# Altium footprint library PCB.PcbLib: 24 footprints (part 1 of 2)
Each footprint in its own frame and in the unit in brackets; x right, y up, seen from the top. Pads: shape width x height; smd on the part's side, far side on the other; paste and mask are expansions set on the pad; w line width, h text height; cw(c..) or ccw(c..) is an arc to the next point about the centre after c.
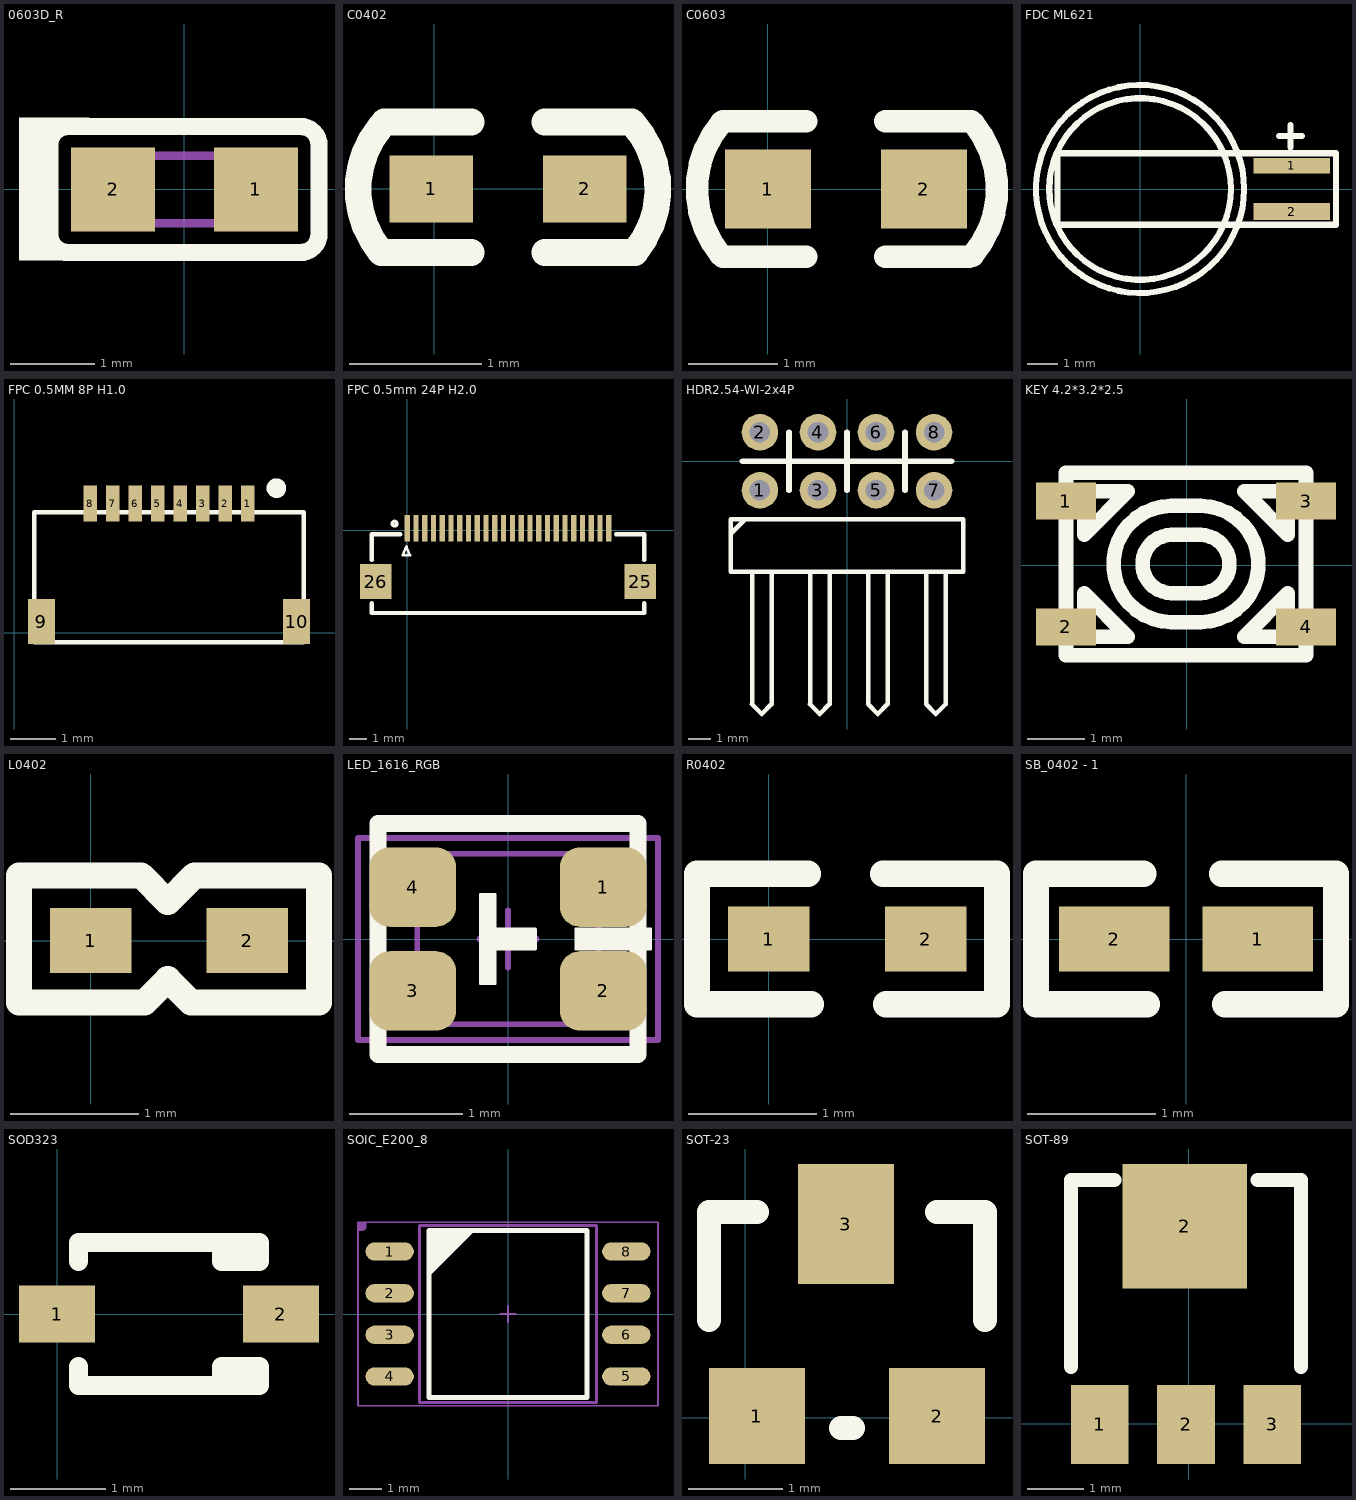
[diagram p0: the footprints below, top view; thin cyan lines are the x and y axes]

## 0603D_R [mm] "LED, SMT, Body 1.6 x 0.8 mm, 0.25mm Thickness"
height 0.25
pads (2):
  rect 1x1 smd paste+0 mask+0: 1(0.85,0) 2(-0.85,0)
Top Overlay:
  rectangle: -1.779,0.671 -1.129,0.857
  rectangle: -1.969,-0.845 -1.512,0.857
  rectangle: -1.779,-0.845 -1.195,-0.68
  lines w0.203: -1.602,-0.533 ccw(c-1.386,-0.533) -1.386,-0.749 1.386,-0.749 ccw(c1.386,-0.533) 1.602,-0.533 1.602,0.533 ccw(c1.386,0.533) 1.386,0.749 -1.386,0.749 ccw(c-1.386,0.533) -1.602,0.533 -1.602,-0.533
Mechanical 7:
  lines w0.1: -0.8,-0.4 -0.8,0.4 0.8,0.4 0.8,-0.4 -0.8,-0.4
3D body: height 0.1, standoff 0, extent -0.8,-0.4 0.8,0.4
3D body: height 0.2, standoff 0.15, extent -0.254,-0.254 0.254,0.254
3D body: height 0.25, standoff 0.1, extent -0.6,-0.4 0.6,0.4

## C0402 [mil]
height 62.99
pads (2):
  rect 25x20 smd: 1(-1,0) 2(45,0)
Top Overlay:
  lines w8: -15.94,-19 11,-19 ; -15.94,-18.95 cw(c6.42,-0.05) -15.95,18.84 ; -15,20 11,20 ; 33,-19 59.95,-19 ; 33,20 59,20 cw(c37.58,0.05) 59.95,-18.84
3D body "cap_0402.STEP": height 19.68, standoff 0, extent 2.31,-10 41.69,9.69

## C0603 [mil]
pads (2):
  rect 38x35 smd: 1(0,0) 2(69,0)
Top Overlay:
  lines w10: -21,-29 cw(c14.45,-0.04) -20.48,29.56 ; -20,-30 17,-30 ; -20,30 17,30 ; 52,-30 89,-30 ; 52,30 90,30 ; 90.48,-29.56 ccw(c55.55,0.04) 91,29
3D body "User Library-0603 SMD Capacitor.STEP": height 11.89, standoff 0, extent 3.8,-15.8 66.8,15.7

## FDC ML621 [mm]
height 1.6
pads (2):
  rect 2.5x0.5 smd: 1(4.953,0.762)
  rect 2.5x0.55 smd: 2(4.953,-0.738)
Top Overlay:
  circle w0.2: c0,0 r2.967
  circle w0.2: c0,0 r3.4
  lines w0.2: 4.547,1.727 5.283,1.727 ; 4.915,1.359 4.915,2.095 ; -2.692,-1.168 6.401,-1.168 6.401,1.168 6.147,1.168 -2.692,1.168 -2.692,-1.168

## FPC 0.5MM 8P H1.0 [mm]
pads (10):
  rect 0.3x0.8 smd: 1(5.2,2.882) 2(4.7,2.882) 3(4.2,2.882) 4(3.7,2.882) 5(3.2,2.882) 6(2.7,2.882) 7(2.198,2.882) 8(1.7,2.882)
  rect 0.6x1 smd: 9(0.61,0.254) 10(6.29,0.254)
Top Overlay:
  circle w0.254: c5.842,3.226 r0.092
  lines w0.1: 0.454,-0.208 0.454,2.692 6.454,2.692 6.454,-0.208 0.454,-0.208
3D body "5034800800.stp": height 1.85, standoff -0.02, extent 0.604,-0.305 6.304,3.295

## FPC 0.5mm 24P H2.0 [mm]
pads (26):
  rect 0.3x1.5 smd: 1(0,0.127) 2(0.5,0.127) 3(1,0.127) 4(1.5,0.127) 5(2,0.127) 6(2.5,0.127) 7(3,0.127) 8(3.5,0.127) 9(4,0.127) 10(4.5,0.127) 11(5,0.127) 12(5.5,0.127) 13(6,0.127) 14(6.5,0.127) 15(7,0.127) 16(7.5,0.127) 17(8,0.127) 18(8.5,0.127) 19(9,0.127) 20(9.5,0.127) 21(10,0.127) 22(10.5,0.127) 23(11,0.127) 24(11.5,0.127)
  rect 1.8x2 smd: 25(13.301,-2.92) 26(-1.8,-2.92)
Top Overlay:
  circle w0.2: c-0.711,0.381 r0.127
  lines w0.15: -0.237,-1.417 -0.037,-0.917 0.163,-1.417 -0.237,-1.417
  lines w0.254: -2.007,-4.151 -2.007,-4.71 13.507,-4.71 13.507,-4.151 ; -2.007,-1.689 -2.007,-0.22 ; -2.007,-0.214 -0.381,-0.214 ; 11.906,-0.214 13.507,-0.214 13.507,-1.689
3D body "XF2M_2415_1A.step": height 2, standoff 0, extent -2.31,-4.674 13.79,1.226

## HDR2.54-WI-2x4P [mm] "双排弯脚排针，4x2脚"
height 1.6
pads (8):
  round 1.6 hole 0.9: 1(-3.81,-1.27) 2(-3.81,1.27) 3(-1.27,-1.27) 4(-1.27,1.27) 5(1.27,-1.27) 6(1.27,1.27) 7(3.81,-1.27) 8(3.81,1.27)
Top Overlay:
  lines w0.2: -5.08,-3.175 -4.445,-2.54 ; -4.158,-10.634 -3.735,-11.057 -3.311,-10.634 -3.302,-10.625 -3.302,-4.826 ; -4.149,-10.634 -4.149,-4.826 ; -1.618,-10.634 -1.195,-11.057 -0.771,-10.634 ; -1.609,-10.634 -1.609,-4.826 ; -0.762,-10.634 -0.762,-4.826 ; 0.922,-10.634 1.345,-11.057 1.769,-10.634 ; 0.931,-10.634 0.931,-4.826 ; 1.778,-10.634 1.778,-4.826 ; 3.462,-10.634 3.885,-11.057 4.309,-10.634 ; 3.471,-10.634 3.471,-4.826 ; 4.318,-10.634 4.318,-4.826 ; -5.08,-4.826 -5.08,-2.54 5.08,-2.54 5.08,-4.826 -5.08,-4.826
  lines w0.254: -4.572,0 4.572,0 ; -2.54,-1.27 -2.54,1.27 ; 0,-1.27 0,1.27 ; 2.54,-1.27 2.54,1.27
3D body "HDR-1x2_H.STEP": height 5.1, standoff -3, extent -2.54,-11.23 0,1.62
3D body "HDR-1x2_H.STEP": height 5.1, standoff -3, extent -5.08,-11.23 -2.54,1.62
3D body "HDR-1x2_H.STEP": height 5.1, standoff -3, extent 2.54,-11.23 5.08,1.62
3D body "HDR-1x2_H.STEP": height 5.1, standoff -3, extent 0,-11.23 2.54,1.62

## KEY 4.2*3.2*2.5 [mm] "KEY 4.2*3.2*2.5"
height 2.5
pads (4):
  rect 1.05x0.65 smd: 1(-2.117,1.125) 2(-2.117,-1.075) 3(2.084,1.125) 4(2.084,-1.075)
Top Overlay:
  lines w0.254: -2.117,-1.575 2.084,-1.575 2.084,1.625 -2.117,1.625 -2.117,-1.575 ; -1.795,-1.245 -1.033,-1.245 -1.795,-0.483 -1.795,-1.245 ; -1.795,0.533 -1.795,1.295 -1.033,1.295 -1.795,0.533 ; -0.271,-0.991 cw(c-0.271,0.025) -0.271,1.041 0.237,1.041 cw(c0.237,0.025) 0.237,-0.991 -0.271,-0.991 ; -0.271,-0.483 cw(c-0.271,0.025) -0.271,0.533 0.237,0.533 cw(c0.237,0.025) 0.237,-0.483 -0.271,-0.483 ; 0.999,-1.245 1.761,-0.483 1.761,-1.245 0.999,-1.245 ; 0.999,1.295 1.761,1.295 1.761,0.533 0.999,1.295
Mechanical 15:
  lines w0.003: -0.042,0.602 0.009,0.653
3D body "PTS815SJG250SMTRLFS.stp": height 2.5, standoff 0, extent -2.25,-1.6 2.25,1.6

## L0402 [mil]
height 62.99
pads (2):
  rect 25x20 smd: 1(0,0) 2(48,0)
Top Overlay:
  lines w8: -22,-19 16.43,-19 23.62,-11.81 30.81,-19 70,-19 70,20 31.81,20 23.62,11.81 15.43,20 -22,20 -22,-19
3D body: height 10, standoff 0, extent 8,-10 41,10
3D body: height 10, standoff 0, extent 5,-10 8,10
3D body: height 10, standoff 0, extent 41,-10 44,10

## LED_1616_RGB [mil]
height 47.24
pads (4):
  rrect50% 30x27.56 smd: 1(33,18) 2(33,-18) 3(-33,-18) 4(-33,18)
Top Overlay:
  region: 49.5,3.5 23.5,3.5 23.5,-3.5 49.5,-3.5
  region: -9.5,15.5 -4.5,15.5 -4.5,3.5 9.5,3.5 9.5,-3.5 -4.5,-3.5 -4.5,-15.5 -9.5,-15.5
  lines w1: -9.5,-15.5 -4.5,-15.5 -4.5,-3.5 9.5,-3.5 9.5,3.5 -4.5,3.5 -4.5,15.5 -9.5,15.5 -9.5,-15.5 ; 23.5,-3.5 23.5,3.5 49.5,3.5 49.5,-3.5 23.5,-3.5
  lines w5.91: -45,-40 -45,40 45,40 45,-40 -45,-40
Mechanical 13:
  lines w2: -10,0 10,0 ; 0,-10 0,10 ; -31.49,-29.52 31.5,-29.52 31.5,29.53 -31.49,29.53 -31.49,-29.52
Mechanical 14:
  lines w2: -52,-35 -52,35 52,35 52,-35 -52,-35
  text ".Designator" at -30,-20 h80
3D body "User Library-HSMF-C114.STEP": height 13.39, standoff -0.39, extent -31.49,-29.52 31.5,29.53

## R0402 [mil] "1/16W"
height 62.99
pads (2):
  rect 25x20 smd: 1(0,0) 2(48.2,0)
Top Overlay:
  lines w8: 12,20 -22,20 -22,-20 13,-20 ; 35,20 70,20 70,-20 36,-20
3D body "R0402.STEP": height 13.78, standoff 0, extent 4.71,-9.78 44.08,9.9

## SB_0402 - 1 [mil] "Jumper"
pads (2):
  rect 34x20 smd: 1(22,0) 2(-22,0)
Top Overlay:
  lines w8: -13,20 -46,20 -46,-20 -12,-20 ; 11,20 46,20 46,-20 12,-20
3D body "R0402.STEP": height 13.78, standoff 0, extent -19.29,-9.79 20.09,9.9

## SOD323 [mm] "0805"
height 1.6
pads (2):
  rect 0.8x0.6 smd: 1(0,0) 2(2.35,0)
Top Overlay:
  lines w0.2: 0.225,-0.55 0.225,-0.75 2.125,-0.75 2.125,-0.55 1.725,-0.55 1.725,-0.75 ; 0.225,0.55 0.225,0.75 2.125,0.75 2.125,0.55 1.725,0.55 1.725,0.75
3D body "SOD-323.STEP": height 1, standoff 0, extent -0.169,-0.667 2.431,0.633

## SOIC_E200_8 [mil]
height 85.04
pads (8):
  oval 58x22 smd: 1(-142,75) 2(-142,25) 3(-142,-25) 4(-142,-75) 5(142,-75) 6(142,-25) 7(142,25) 8(142,75)
Top Overlay:
  region: -95,100 -40,100 -95,45
  lines w6: -95,-100 95,-100 95,100 -95,100 -95,-100
Mechanical 13:
  lines w2: -10,0 10,0 ; 0,-10 0,10
  lines w4: -106.3,-106.3 106.3,-106.3 106.3,106.3 -106.3,106.3 -106.3,-106.3
Mechanical 14:
  region: -180,110 -170,110 -170,105 -170,104.01 -170.76,102.17 -172.17,100.76 -174.01,100 -175,100 -180,100
  lines w2: -180,-110 -180,110 180,110 180,-110 -180,-110
  text ".Designator" at -41,-25 h100
3D body "User Library-SOIC-8-208.STEP": height 84.37, standoff -0.28, extent -161.41,-106.3 161.42,106.3

## SOT-23 [mil]
pads (3):
  rect 40x40 smd: 1(4.88,0.63) 2(79.88,0.63)
  rect 40x50 smd: 3(41.88,80.63)
Top Overlay:
  lines w10: -15.12,40.63 -15.12,85.63 4.88,85.63 ; 39.88,-4.37 44.88,-4.37 ; 79.88,85.63 99.88,85.63 99.88,40.63
3D body "SOT-23-3.STEP": height 47.24, standoff 0, extent -14.87,-11.02 99.3,99.22

## SOT-89 [mil]
height 62.99
pads (4):
  rect 40x55 smd: 1(-61.82,-0.57) 2(-1.82,-0.57) 3(58.18,-0.57)
  rect 86.61x86.61 smd: 2(-2.76,137.22)
Top Overlay:
  lines w10: -81.82,39.43 -81.82,169.43 -51.82,169.43 ; 48.18,169.43 78.18,169.43 78.18,39.43
3D body "SOT-89.STEP": height 59.45, standoff 0, extent -90.07,-6.45 87.1,162.85